# EAGLE library part DX07S024JJ3R1300 (library DX07S024JJ3R1300)
top mount dual row SMT receptacle, 24 position, non-shielded, 1300 pcs/reel
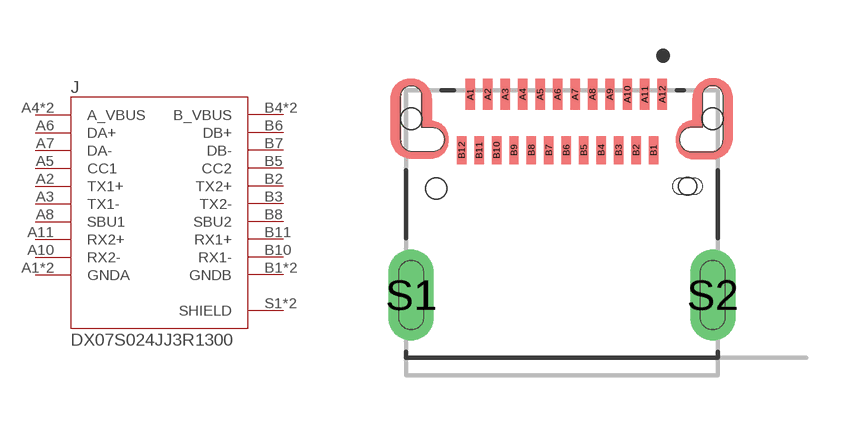
[diagram p0: symbol with the pads of JAE_DX07S024JJ3R1300; footprint JAE_DX07S024JJ3R1300]

Designator prefix J

## DX07S024JJ3R1300 (Availability: Unavailable; Description: top mount dual row SMT receptacle, 24 position, non-shielded, 1300 pcs/reel; MF: JAE Electronics; MP: DX07S024JJ3R1300; Package: None; Price: None)  [JAE_DX07S024JJ3R1300]
A1  GNDA  pas
A2  TX1+  pas
A3  TX1-  pas
A4  A_VBUS  pas
A5  CC1  pas
A6  DA+  pas
A7  DA-  pas
A8  SBU1  pas
A9  A_VBUS  pas
A10  RX2-  pas
A11  RX2+  pas
A12  GNDA  pas
B1  GNDB  pas
B2  TX2+  pas
B3  TX2-  pas
B4  B_VBUS  pas
B5  CC2  pas
B6  DB+  pas
B7  DB-  pas
B8  SBU2  pas
B9  B_VBUS  pas
B10  RX1-  pas
B11  RX1+  pas
B12  GNDB  pas
S1  SHIELD  pas
S2  SHIELD  pas

## Footprint JAE_DX07S024JJ3R1300 (pad centres in mm)
smd 0.27 x 0.9: A1 -2.625,2.7; A2 -2.125,2.7; A3 -1.625,2.7; A4 -1.125,2.7; A5 -0.625,2.7; A6 -0.125,2.7; A7 0.375,2.7; A8 0.875,2.7; A9 1.375,2.7; A10 1.875,2.7; A11 2.375,2.7; A12 2.875,2.7
smd 0.27 x 0.8: B1 2.625,1.1; B2 2.125,1.1; B3 1.625,1.1; B4 1.125,1.1; B5 0.625,1.1; B6 0.125,1.1; B7 -0.375,1.1; B8 -0.875,1.1; B9 -1.375,1.1; B10 -1.875,1.1; B11 -2.375,1.1; B12 -2.875,1.1
drill 0.7 pad 1.3 long: S1 -4.32,-3.05; S2 4.32,-3.05
hole 0.6 at -3.6,0
hole 0.5 at 3.6,0.065
hole 0.6 at -4.32,2
hole 0.6 at 4.32,2